# EAGLE library part LSF0102 (library bschulz)
LSF0102 - 2 Channel Bidirectional Voltage Level Translator Characteristics: Vcc: 1.8 ~ 5V IQ: 1μA typ Output Current: 64mA Output Type: Open Drain/Push-Pull Operating Temperature: -40°C to 125°C Digikey: 296-40399-1-ND (DQE) <https://www.digikey.com/product-detail/en/texas-instruments/LSF0102DQER/296-40399-1-ND/5178276> 296-39070-1-ND (DCU) <https://www.digikey.com/product-detail/en/texas-instruments/LSF0102DCUR/296-39070-1-ND/5143099>
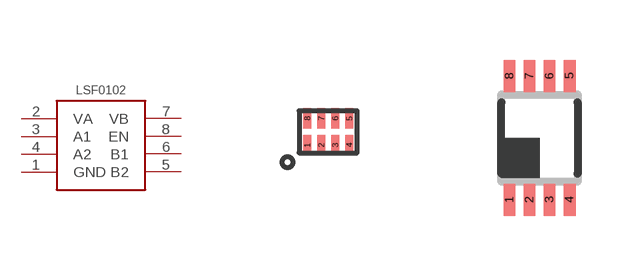
[diagram p54: symbol with the pads of DQE_R-PX2SON-N8; footprints DQE_R-PX2SON-N8, DCU_(R-PDSO-G8)]

Designator prefix -

## LSF0102DQE (DIGIKEY: 296-40399-1-ND; MF: TI; MPN: LSF0102DQER)  [DQE_R-PX2SON-N8]
1  GND  in
2  VA  in
3  A1
4  A2
5  B2
6  B1
7  VB  in
8  EN  in

## LSF0102DCU (DIGIKEY: 296-39070-1-ND; MF: TI; MPN: LSF0102DCUR)  [DCU_(R-PDSO-G8)]
Pads as for DQE_R-PX2SON-N8

## Footprint DQE_R-PX2SON-N8 (pad centres in mm)
smd 0.19 x 0.51: 1 -0.525,-0.335; 2 -0.175,-0.335; 3 0.175,-0.335; 4 0.525,-0.335; 5 0.525,0.335; 6 0.175,0.335; 7 -0.175,0.335; 8 -0.525,0.335

## Footprint DCU_(R-PDSO-G8) (pad centres in mm)
DCU (R-PDSO-G8) PLASTIC SMALL OUTLINE PACKAGE (DIE DOWN) Soure: Data sheet <http://www.ti.com/lit/ds/symlink/ads7042.pdf>
smd 0.3 x 0.8: 1 -0.75,-1.55; 2 -0.25,-1.55; 3 0.25,-1.55; 4 0.75,-1.55; 5 0.75,1.55; 6 0.25,1.55; 7 -0.25,1.55; 8 -0.75,1.55